# Altium footprint library PcbLib1.PcbLib: 3 footprints
Each footprint in its own frame and in the unit in brackets; x right, y up, seen from the top. Pads: shape width x height; smd on the part's side, far side on the other; paste and mask are expansions set on the pad; w line width, h text height; cw(c..) or ccw(c..) is an arc to the next point about the centre after c.
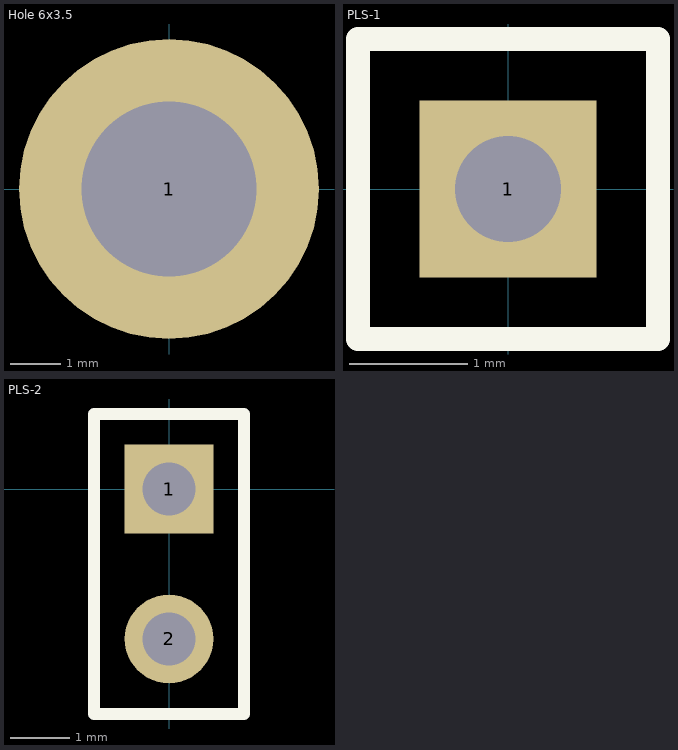
[diagram p0: the footprints below, top view; thin cyan lines are the x and y axes]

## Hole 6x3.5 [mm]
pads (1):
  round 6 hole 3.5: 1(0,0)

## PLS-1 [mm]
pads (1):
  rect 1.5x1.5 hole 0.9: 1(0,0)
Top Overlay:
  lines w0.2: -1.27,-1.27 1.27,-1.27 1.27,1.27 -1.27,1.27 -1.27,-1.27
Bottom Overlay:
  lines w0.2: -1.27,-1.27 -1.27,1.27 1.27,1.27 1.27,-1.27 -1.27,-1.27

## PLS-2 [mm]
pads (2):
  rect 1.5x1.5 hole 0.9: 1(0,0)
  round 1.5 hole 0.9: 2(0,-2.54)
Top Overlay:
  lines w0.2: -1.27,-3.81 1.27,-3.81 1.27,1.27 -1.27,1.27 -1.27,-3.81
Bottom Overlay:
  lines w0.2: -1.27,-3.81 -1.27,1.27 1.27,1.27 1.27,-3.81 -1.27,-3.81